# Altium footprint library zbook-rf-shields-LORA-P1.PcbLib: 26 footprints (part 2 of 2)
Each footprint in its own frame and in the unit in brackets; x right, y up, seen from the top. Pads: shape width x height; smd on the part's side, far side on the other; paste and mask are expansions set on the pad; w line width, h text height; cw(c..) or ccw(c..) is an arc to the next point about the centre after c.
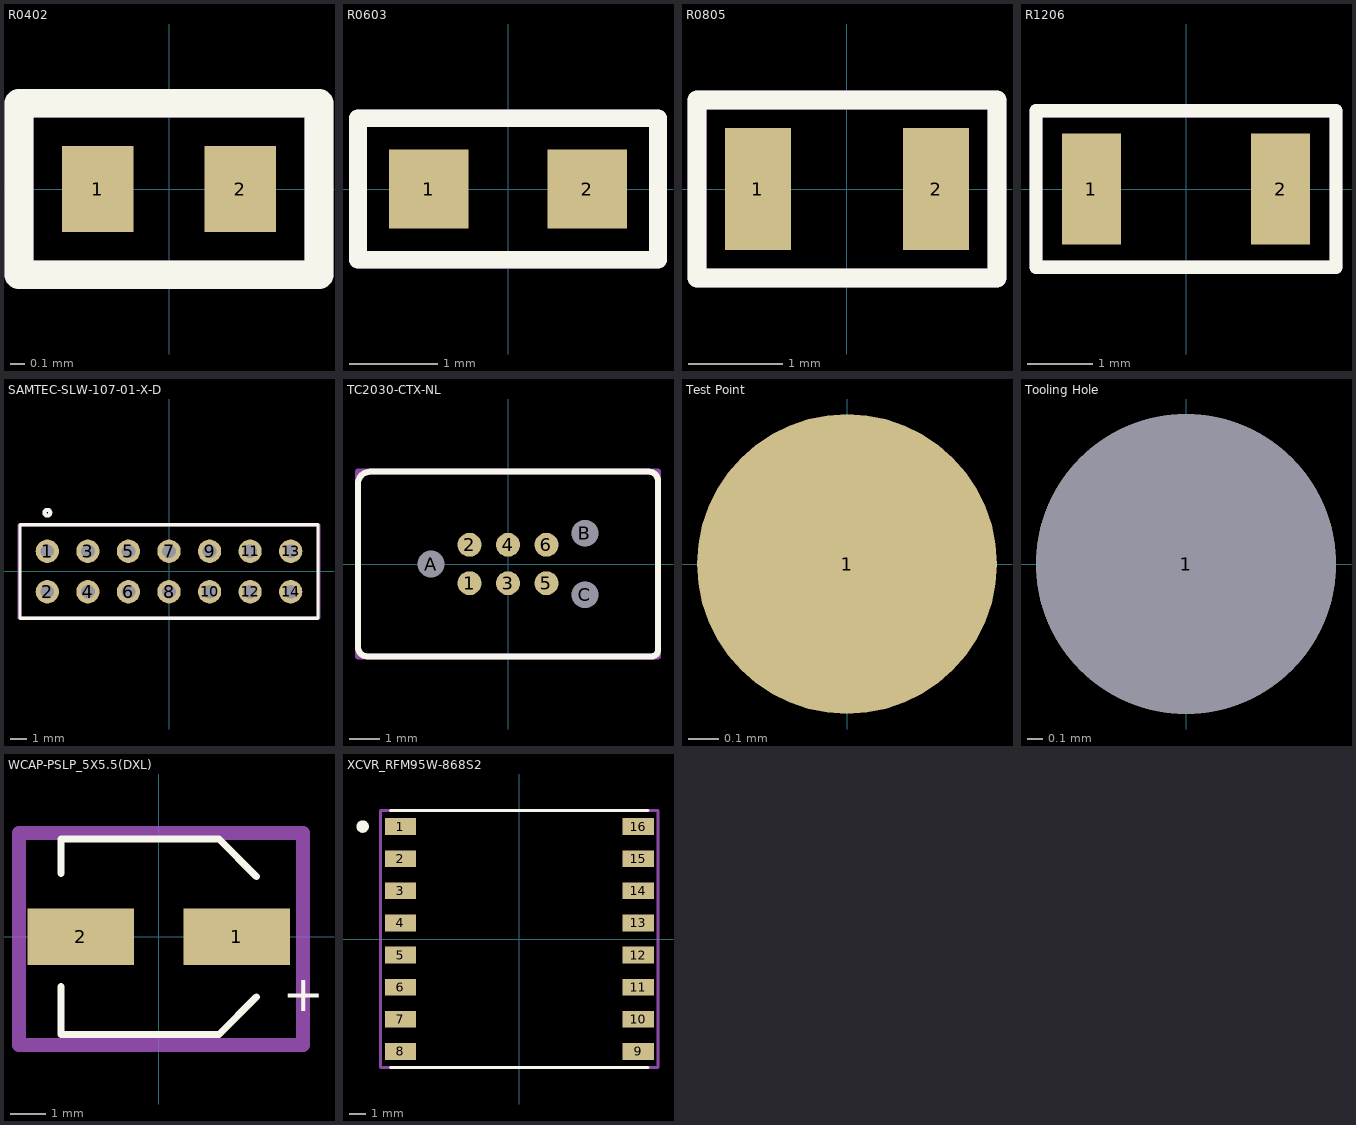
[diagram p1: the footprints below, top view; thin cyan lines are the x and y axes]

## R0402 [mm]
pads (2):
  rect 0.5x0.6 smd: 1(-0.5,0) 2(0.5,0)
Top Overlay:
  lines w0.2: -1.05,-0.6 1.05,-0.6 1.05,0.6 -1.05,0.6 -1.05,-0.6
Mechanical 29:
  lines w0.2: -1.05,-0.6 1.05,-0.6 1.05,0.6 -1.05,0.6 -1.05,-0.6
  text "'.Designator'" at -0.75,-0.223 h0.5
3D body "R0402.step": height 0.41, standoff 0.01, extent -0.5,-0.25 0.5,0.25

## R0603 [mm]
height 0.9
pads (2):
  rect 0.9x0.9 smd: 1(-0.9,0) 2(0.9,0)
Top Overlay:
  lines w0.2: -1.7,-0.8 1.7,-0.8 1.7,0.8 -1.7,0.8 -1.7,-0.8
Mechanical 29:
  lines w0.2: -1.7,-0.8 -1.7,0.8 1.7,0.8 1.7,-0.8 -1.7,-0.8
  text "'.Designator'" at -1.3,-0.4 h0.8
3D body "R0603.stp": height 0.46, standoff 0.01, extent -0.775,-0.4 0.775,0.4

## R0805 [mm]
pads (2):
  rect 0.7x1.3 smd: 1(-0.95,0) 2(0.95,0)
Top Overlay:
  lines w0.2: -1.6,-0.95 -1.6,0.95 1.6,0.95 1.6,-0.95 -1.6,-0.95
Mechanical 29:
  lines w0.2: -1.6,-0.95 -1.6,0.95 1.6,0.95 1.6,-0.95 -1.6,-0.95
  text "'.Designator'" at -0.6,-0.347 h0.85
3D body "R0805.step": height 0.61, standoff 0.01, extent -1,-0.6 1,0.6

## R1206 [mm]
pads (2):
  rect 0.9x1.7 smd: 1(-1.45,0) 2(1.45,0)
Top Overlay:
  lines w0.2: -2.3,-1.2 2.3,-1.2 2.3,1.2 -2.3,1.2 -2.3,-1.2
Mechanical 29:
  lines w0.2: -2.3,-1.2 -2.3,1.2 2.3,1.2 2.3,-1.2 -2.3,-1.2
  text "'.Designator'" at -1.5,-0.5 h1
3D body "R1206.stp": height 0.56, standoff 0.01, extent -1.6,-0.8 1.6,0.8

## SAMTEC-SLW-107-01-X-D [mm]
pads (14):
  round 1.46 hole 0.86 mask+0: 1(-7.62,1.27) 2(-7.62,-1.27) 3(-5.08,1.27) 4(-5.08,-1.27) 5(-2.54,1.27) 6(-2.54,-1.27) 7(0,1.27) 8(0,-1.27) 9(2.54,1.27) 10(2.54,-1.27) 11(5.08,1.27) 12(5.08,-1.27) 13(7.62,1.27) 14(7.62,-1.27)
Top Overlay:
  circle w0.254: c-7.62,3.683 r0.18
  lines w0.2: -9.34,-2.927 -9.34,2.927 9.34,2.927 9.34,-2.927 -9.34,-2.927
Top Solder:
  circle w0: c-7.62,1.27 r0.781
  circle w0: c-7.62,-1.27 r0.781
  circle w0: c-5.08,1.27 r0.781
  circle w0: c-5.08,-1.27 r0.781
  circle w0: c-2.54,1.27 r0.781
  circle w0: c-2.54,-1.27 r0.781
  circle w0: c0,1.27 r0.781
  circle w0: c0,-1.27 r0.781
  circle w0: c2.54,1.27 r0.781
  circle w0: c2.54,-1.27 r0.781
  circle w0: c5.08,1.27 r0.781
  circle w0: c5.08,-1.27 r0.781
  circle w0: c7.62,1.27 r0.781
  circle w0: c7.62,-1.27 r0.781
Bottom Solder:
  circle w0: c-7.62,1.27 r0.781
  circle w0: c-7.62,-1.27 r0.781
  circle w0: c-5.08,1.27 r0.781
  circle w0: c-5.08,-1.27 r0.781
  circle w0: c-2.54,1.27 r0.781
  circle w0: c-2.54,-1.27 r0.781
  circle w0: c0,1.27 r0.781
  circle w0: c0,-1.27 r0.781
  circle w0: c2.54,1.27 r0.781
  circle w0: c2.54,-1.27 r0.781
  circle w0: c5.08,1.27 r0.781
  circle w0: c5.08,-1.27 r0.781
  circle w0: c7.62,1.27 r0.781
  circle w0: c7.62,-1.27 r0.781
Mechanical 29:
  lines w0.18: -9.398,-2.921 9.398,-2.921 9.398,2.921 -9.398,2.921 -9.398,-2.921
3D body "SLW-107-01-F-D.stp": height 4.57, standoff -2.92, extent -8.89,-2.476 8.89,2.476

## TC2030-CTX-NL [mil]
pads (9):
  round 31 smd paste-19.68: 1(-50,-25) 2(-50,25) 3(0,-25) 4(0,25) 5(50,-25) 6(50,25)
  round 34 hole 35 unplated: A(-100,0) B(100,40) C(100,-40)
Top Overlay:
  lines w7.87: -195,-108.15 ccw(c-183.15,-108.15) -183.15,-120 187.09,-120 ccw(c187.09,-112.09) 195,-112.09 195,108.15 ccw(c183.15,108.15) 183.15,120 -179.21,120 ccw(c-179.21,104.21) -195,104.21 -195,-108.15
Mechanical 29:
  lines w7.87: -194.88,-120.08 -194.88,120.08 195,120.08 195,-120.08 -194.88,-120.08
  text "'.Designator'" at -82.68,-23.62 h33.46

## Test Point [mm]
pads (1):
  round 1 smd paste-1: 1(0,0)

## Tooling Hole [mm]
pads (1):
  round 2 hole 2 unplated: 1(0,0)

## WCAP-PSLP_5X5.5(DXL) [mm]
pads (2):
  rect 3x1.6 smd paste+0 mask+0.102: 1(2.2,0) 2(-2.2,0)
Top Overlay:
  lines w0.2: -2.75,-1.397 -2.75,-2.75 1.7,-2.75 2.75,-1.7 ; -2.75,1.778 -2.75,2.75 1.7,2.75 2.75,1.7
  text "+" at 3.5,-2.1 h1.02
Mechanical 29:
  circle w0.254: c-2.286,-0.127 r0.18
  lines w0.4: -3.937,-3.048 -3.937,2.921 4.064,2.921 4.064,-3.048 -3.937,-3.048
  text "'.Designator'" at -0.576,-0.092 h0.85
3D body "Download_STP_875105x4200x+%28rev1%29.stp": height 5.35, standoff -0.15, extent -3.136,-2.716 2.864,2.584

## XCVR_RFM95W-868S2 [mm]
pads (16):
  rect 1.95x1.05 smd: 1(-7.4,7) 2(-7.4,5) 3(-7.4,3) 4(-7.4,1) 5(-7.4,-1) 6(-7.4,-3) 7(-7.4,-5) 8(-7.4,-7) 9(7.4,-7) 10(7.4,-5) 11(7.4,-3) 12(7.4,-1) 13(7.4,1) 14(7.4,3) 15(7.4,5) 16(7.4,7)
Top Overlay:
  circle w0.2: c-9.75,7 r0.292
  region: -9.5,6.808 -10.011,6.808 -10.011,7.2 -9.5,7.2
  lines w0.2: -8,-8 8,-8 ; -8,8 8,8
Mechanical 29:
  lines w0.18: -8.635,-8 8.635,-8 ; -8.635,8 8.635,8
  lines w0.2: -8.635,-8 -8.635,8 ; 8.635,-8 8.635,8
3D body "step_temp.STEP": height 1.8, standoff 0, extent -8,-8 8,8